# Altium footprint library running car pcb.PcbLib: 35 footprints (part 3 of 3)
Each footprint in its own frame and in the unit in brackets; x right, y up, seen from the top. Pads: shape width x height; smd on the part's side, far side on the other; paste and mask are expansions set on the pad; w line width, h text height; cw(c..) or ccw(c..) is an arc to the next point about the centre after c.
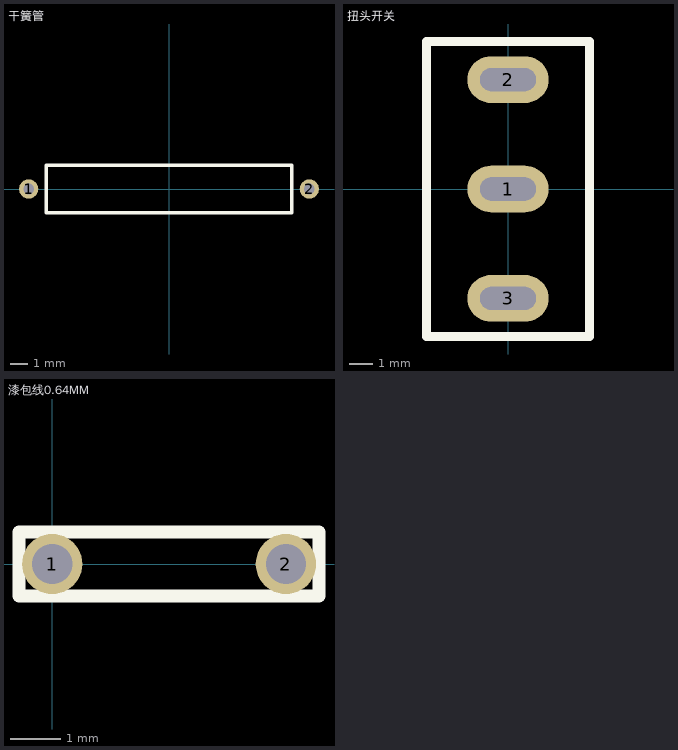
[diagram p2: the footprints below, top view; thin cyan lines are the x and y axes]

## 干簧管 [mm]
pads (2):
  round 1.1 hole 0.6: 1(-8,0) 2(8,0)
Top Overlay:
  lines w0.2: -6.953,-1.35 -7,-1.35 ; -7,-1.35 -7,1.35 -6.731,1.35 6.477,1.35 7,1.35 7,-1.35 6.604,-1.35 -7,-1.35

## 扭头开关 [mm]
pads (3):
  oval 3.5x2 hole 1 slot 2.4 at 0 deg: 1(0,0) 2(0,4.7) 3(0,-4.7)
Top Overlay:
  lines w0.381: -3.5,-6.35 3.5,-6.35 3.5,6.35 -3.5,6.35 -3.5,-6.35

## 漆包线0.64MM [mm]
pads (2):
  round 1.2 hole 0.8: 1(0,0) 2(4.65,0)
Top Overlay:
  lines w0.254: -0.66,-0.635 -0.66,0.635 5.309,0.635 5.309,-0.635 -0.66,-0.635